# Altium footprint library PCB_Lib.PcbLib: 4 footprints
Each footprint in its own frame and in the unit in brackets; x right, y up, seen from the top. Pads: shape width x height; smd on the part's side, far side on the other; paste and mask are expansions set on the pad; w line width, h text height; cw(c..) or ccw(c..) is an arc to the next point about the centre after c.
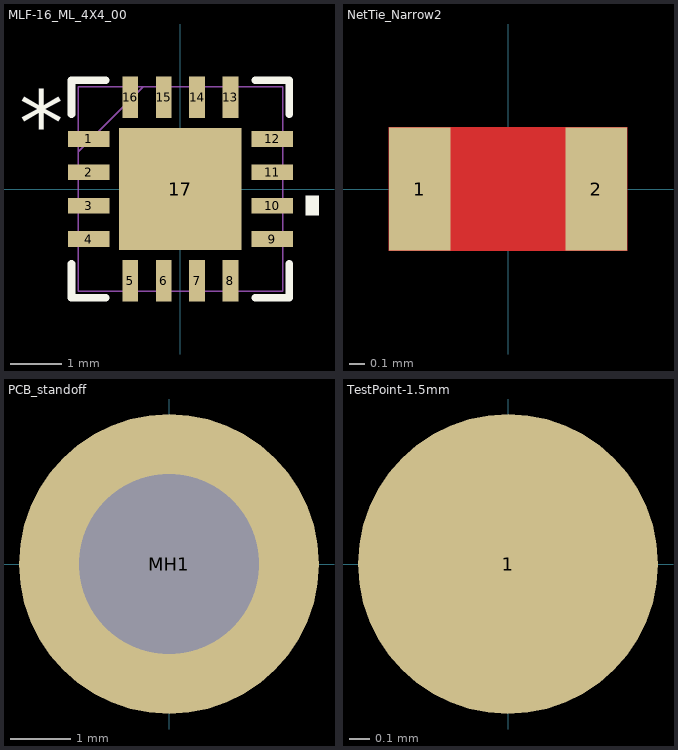
[diagram p0: the footprints below, top view; thin cyan lines are the x and y axes]

## MLF-16_ML_4X4_00 [mm]
pads (17):
  rect 0.81x0.306 smd paste+0 mask+0: 1(-1.789,0.975) 2(-1.789,0.325) 3(-1.789,-0.325) 4(-1.789,-0.975) 9(1.789,-0.975) 10(1.789,-0.325) 11(1.789,0.325) 12(1.789,0.975)
  rect 0.306x0.81 smd paste+0 mask+0: 5(-0.975,-1.789) 6(-0.325,-1.789) 7(0.325,-1.789) 8(0.975,-1.789) 13(0.975,1.789) 14(0.325,1.789) 15(-0.325,1.789) 16(-0.975,1.789)
  rect 2.388x2.388 smd paste+0 mask+0: 17(0,0)
Top Overlay:
  region: 2.448,-0.135 2.702,-0.135 2.702,-0.516 2.448,-0.516
  lines w0.152: -2.121,-1.461 -2.121,-2.121 -1.461,-2.121 ; -2.121,1.461 -2.121,2.121 -1.461,2.121 ; 1.461,-2.121 2.121,-2.121 2.121,-1.461 ; 1.461,2.121 2.121,2.121 2.121,1.461
  text "*" at -3.146,0.665 h1.27
Mechanical 13:
  lines w0.025: -1.994,0.724 -0.724,1.994 ; -1.994,-1.994 -1.994,1.994 1.994,1.994 1.994,-1.994 -1.994,-1.994 ; -1.994,-1.153 -1.994,-0.797 -1.994,-1.153 ; -1.994,-0.503 -1.994,-0.147 -1.994,-0.503 ; -1.994,0.147 -1.994,0.503 -1.994,0.147 ; -1.994,0.797 -1.994,1.153 -1.994,0.797 ; -1.153,-1.994 -0.797,-1.994 -1.153,-1.994 ; -1.153,1.994 -0.797,1.994 -1.153,1.994 ; -0.503,-1.994 -0.147,-1.994 -0.503,-1.994 ; -0.503,1.994 -0.147,1.994 -0.503,1.994 ; 0.147,-1.994 0.503,-1.994 0.147,-1.994 ; 0.147,1.994 0.503,1.994 0.147,1.994 ; 0.797,-1.994 1.153,-1.994 0.797,-1.994 ; 0.797,1.994 1.153,1.994 0.797,1.994 ; 1.994,-1.153 1.994,-0.797 1.994,-1.153 ; 1.994,-0.503 1.994,-0.147 1.994,-0.503 ; 1.994,0.147 1.994,0.503 1.994,0.147 ; 1.994,0.797 1.994,1.153 1.994,0.797
  text "*" at -1.702,0.665 h1.27
3D body: height 0.25, standoff 0, extent 0,0 0.254,0.254
3D body "MLF-16_ML_4X4_MCH.step": height 0.89, standoff 0, extent -1.994,-1.994 1.994,1.994

## NetTie_Narrow2 [mm]
pads (2):
  rect 0.4x0.8 smd: 1(-0.575,0) 2(0.575,0)
Top Layer:
  region: -0.775,0.4 -0.775,-0.4 0.775,-0.4 0.775,0.4

## PCB_standoff [mm]
pads (1):
  round 5 hole 3 unplated: MH1(0,0)
3D body "User Library-Male - Female Hexagonal Threaded Standoffs; length 15mm; key 5mm; M3x10mm and M3x6mm.step": height 5, standoff -16, extent -2.5,-2.887 2.5,2.887

## TestPoint-1.5mm [mm]
pads (1):
  round 1.5 smd: 1(0,0)